# Altium schematic symbol library CON-4.Schlib: 1 symbol
Pins are listed as number, name and electrical type; pins without a type are passive.

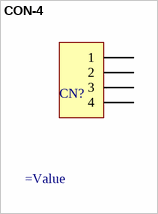
[diagram p0: symbol CON-4]

## CON-4
designator CN?
=Description
pins: 1, 2, 3, 4